# EAGLE library part AMPHENOL_RJ11 (library excitebike)
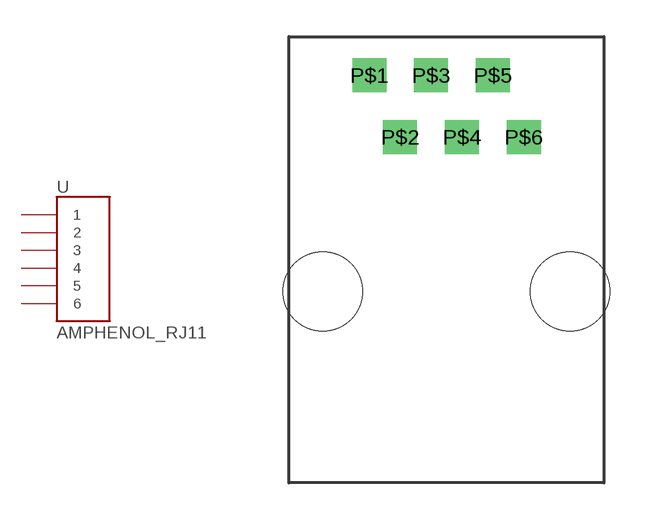
[diagram p2: symbol with the pads of RJ11-SMT; footprint RJ11-SMT]

Designator prefix -

## AMPHENOL_RJ11  [RJ11-SMT]
P$1  1
P$2  2
P$3  3
P$4  4
P$5  5
P$6  6

## Footprint RJ11-SMT (pad centres in mm)
drill 0.89 square: P$1 1.91,8.89; P$2 3.18,6.35; P$3 4.45,8.89; P$4 5.72,6.35; P$5 6.99,8.89; P$6 8.26,6.35
hole 3.25 at 0,0
hole 3.25 at 10.16,0